# Altium schematic symbol library RS_Library_Schematic.SchLib: 7 symbols
Pins are listed as number, name and electrical type; pins without a type are passive.

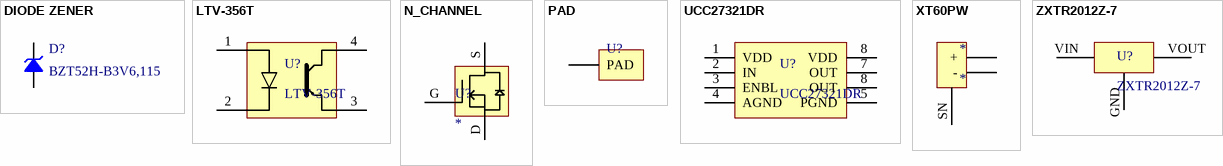
[diagram p0: symbols DIODE ZENER to ZXTR2012Z-7]

## DIODE ZENER
designator D?, comment BZT52H-B3V6,115
Zener Diode 3.6 V 375 mW ±2% Surface Mount SOD-123F; Manufacturer: Nexperia USA Inc.; Voltage: 3.6V; Tolerance: NA; Value: 3.6V; AV P/N: NEW; Package: SOD-123F; Temperature: -65°C ~ 150°C; Current: -; Manufacturer P/N: BZT52H-B3V6,115
footprint SOD123FL (Molded Diode, 2-Leads, Body)
pins: 1, 2

## LTV-356T
designator U?
footprint OptoIsolator_LTV-356T-B
pins: 1 Anode, 2 Cathode, 3 Emmiter, 4 Collector

## N_CHANNEL
designator U?
footprint N_CH_SUG90090E
pins: D, G, S

## PAD
designator U?
footprint PAD
pins: PAD

## UCC27321DR
designator U?
footprint Gate_Driver_UCC27321DR
pins: 1 VDD, 2 IN, 3 ENBL, 4 AGND, 5 PGND, 7 OUT, 8 VDD, 8 OUT

## XT60PW
designator *
footprint XT60PW
pins: +, -, SN

## ZXTR2012Z-7
designator U?
pins: GND, VIN, VOUT